# EAGLE library part AR0231AT7C00XUEA0-DRBR-E (library AR0231AT7C00XUEA0-DRBR-E)
Image Sensor Color CMOS 1928 x 1208Pixels Source: Datasheet <https://4donline.ihs.com/images/VipMasterIC/IC/ONSM/ONSM-S-A0003590094/ONSM-S-A0003590376-1.pdf?hkey=52A5661711E402568146F3353EA87419>
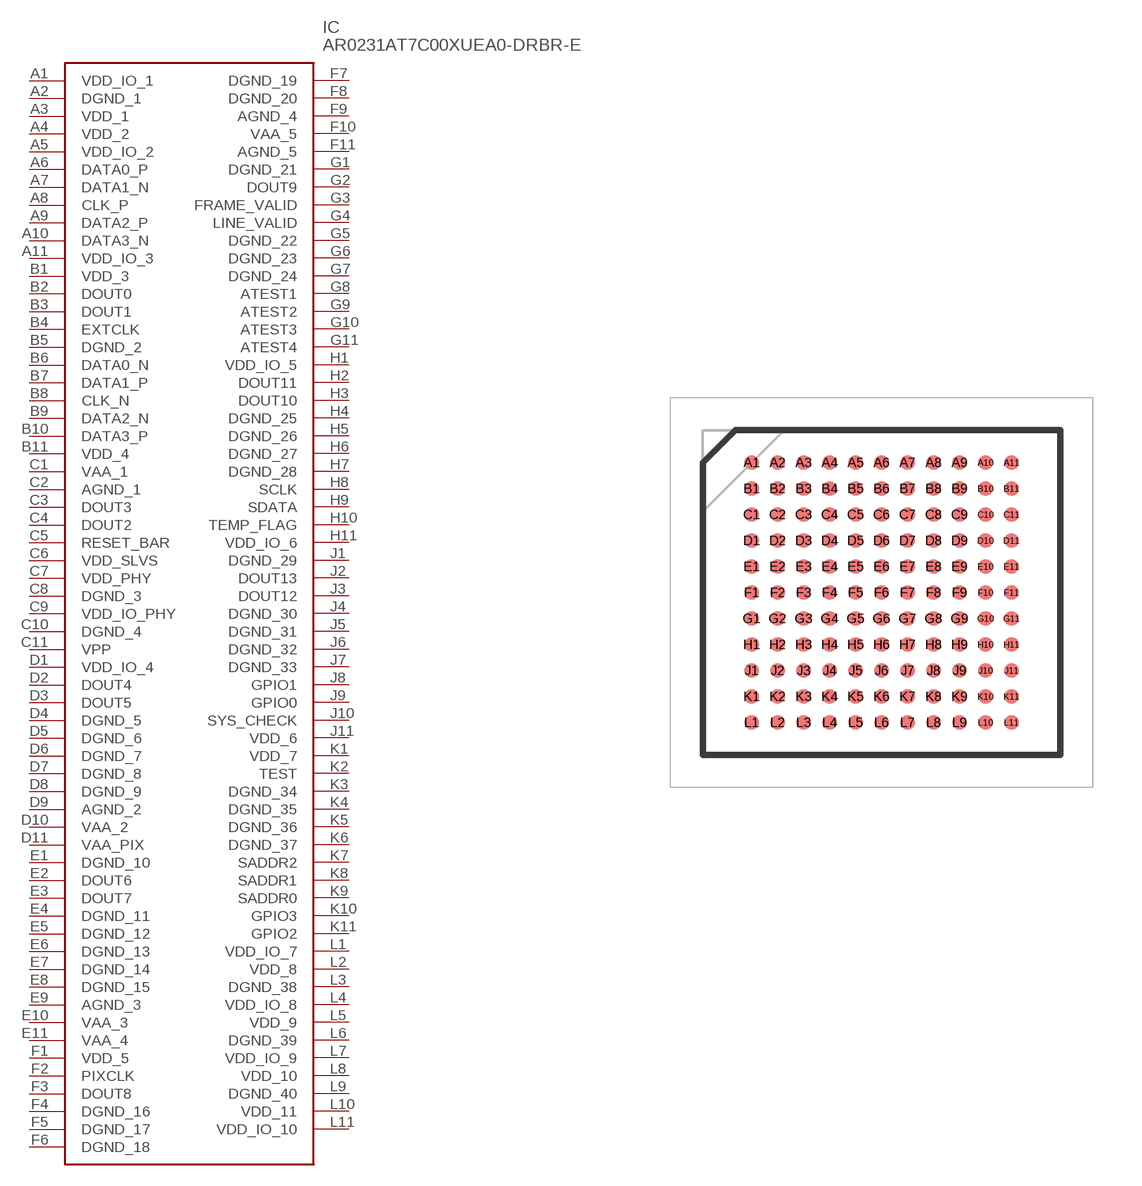
[diagram p0: symbol with the pads of BGA121C80P11X11_1100X1000X155; footprint BGA121C80P11X11_1100X1000X155]

Designator prefix IC

## AR0231AT7C00XUEA0-DRBR-E (Description: Image Sensor Color CMOS 1928 x 1208Pixels; Height: 1.55mm; Manufacturer_Name: onsemi; Manufacturer_Part_Number: AR0231AT7C00XUEA0-DRBR-E)  [BGA121C80P11X11_1100X1000X155]
A1  VDD_IO_1
A2  DGND_1
A3  VDD_1
A4  VDD_2
A5  VDD_IO_2
A6  DATA0_P
A7  DATA1_N
A8  CLK_P
A9  DATA2_P
A10  DATA3_N
A11  VDD_IO_3
B1  VDD_3
B2  DOUT0
B3  DOUT1
B4  EXTCLK
B5  DGND_2
B6  DATA0_N
B7  DATA1_P
B8  CLK_N
B9  DATA2_N
B10  DATA3_P
B11  VDD_4
C1  VAA_1
C2  AGND_1
C3  DOUT3
C4  DOUT2
C5  RESET_BAR
C6  VDD_SLVS
C7  VDD_PHY
C8  DGND_3
C9  VDD_IO_PHY
C10  DGND_4
C11  VPP
D1  VDD_IO_4
D2  DOUT4
D3  DOUT5
D4  DGND_5
D5  DGND_6
D6  DGND_7
D7  DGND_8
D8  DGND_9
D9  AGND_2
D10  VAA_2
D11  VAA_PIX
E1  DGND_10
E2  DOUT6
E3  DOUT7
E4  DGND_11
E5  DGND_12
E6  DGND_13
E7  DGND_14
E8  DGND_15
E9  AGND_3
E10  VAA_3
E11  VAA_4
F1  VDD_5
F2  PIXCLK
F3  DOUT8
F4  DGND_16
F5  DGND_17
F6  DGND_18
F7  DGND_19
F8  DGND_20
F9  AGND_4
F10  VAA_5
F11  AGND_5
G1  DGND_21
G2  DOUT9
G3  FRAME_VALID
G4  LINE_VALID
G5  DGND_22
G6  DGND_23
G7  DGND_24
G8  ATEST1
G9  ATEST2
G10  ATEST3
G11  ATEST4
H1  VDD_IO_5
H2  DOUT11
H3  DOUT10
H4  DGND_25
H5  DGND_26
H6  DGND_27
H7  DGND_28
H8  SCLK
H9  SDATA
H10  TEMP_FLAG
H11  VDD_IO_6
J1  DGND_29
J2  DOUT13
J3  DOUT12
J4  DGND_30
J5  DGND_31
J6  DGND_32
J7  DGND_33
J8  GPIO1
J9  GPIO0
J10  SYS_CHECK
J11  VDD_6
K1  VDD_7
K2  TEST
K3  DGND_34
K4  DGND_35
K5  DGND_36
K6  DGND_37
K7  SADDR2
K8  SADDR1
K9  SADDR0
K10  GPIO3
K11  GPIO2
L1  VDD_IO_7
L2  VDD_8
L3  DGND_38
L4  VDD_IO_8
L5  VDD_9
L6  DGND_39
L7  VDD_IO_9
L8  VDD_10
L9  DGND_40
L10  VDD_11
L11  VDD_IO_10

## Footprint BGA121C80P11X11_1100X1000X155 (pad centres in mm)
IBGA121 10x11 CASE 503BG ISSUE O
smd 0.45 x 0.45: A1 -4,4; A2 -3.2,4; A3 -2.4,4; A4 -1.6,4; A5 -0.8,4; A6 0,4; A7 0.8,4; A8 1.6,4; A9 2.4,4; A10 3.2,4; A11 4,4; B1 -4,3.2; B2 -3.2,3.2; B3 -2.4,3.2; B4 -1.6,3.2; B5 -0.8,3.2; B6 0,3.2; B7 0.8,3.2; B8 1.6,3.2; B9 2.4,3.2; B10 3.2,3.2; B11 4,3.2; C1 -4,2.4; C2 -3.2,2.4; C3 -2.4,2.4; C4 -1.6,2.4; C5 -0.8,2.4; C6 0,2.4; C7 0.8,2.4; C8 1.6,2.4; C9 2.4,2.4; C10 3.2,2.4; C11 4,2.4; D1 -4,1.6; D2 -3.2,1.6; D3 -2.4,1.6; D4 -1.6,1.6; D5 -0.8,1.6; D6 0,1.6; D7 0.8,1.6; D8 1.6,1.6; D9 2.4,1.6; D10 3.2,1.6; D11 4,1.6; E1 -4,0.8; E2 -3.2,0.8; E3 -2.4,0.8; E4 -1.6,0.8; E5 -0.8,0.8; E6 0,0.8; E7 0.8,0.8; E8 1.6,0.8; E9 2.4,0.8; E10 3.2,0.8; E11 4,0.8; F1 -4,0; F2 -3.2,0; F3 -2.4,0; F4 -1.6,0; F5 -0.8,0; F6 0,0; F7 0.8,0; F8 1.6,0; F9 2.4,0; F10 3.2,0; F11 4,0; G1 -4,-0.8; G2 -3.2,-0.8; G3 -2.4,-0.8; G4 -1.6,-0.8; G5 -0.8,-0.8; G6 0,-0.8; G7 0.8,-0.8; G8 1.6,-0.8; G9 2.4,-0.8; G10 3.2,-0.8; G11 4,-0.8; H1 -4,-1.6; H2 -3.2,-1.6; H3 -2.4,-1.6; H4 -1.6,-1.6; H5 -0.8,-1.6; H6 0,-1.6; H7 0.8,-1.6; H8 1.6,-1.6; H9 2.4,-1.6; H10 3.2,-1.6; H11 4,-1.6; J1 -4,-2.4; J2 -3.2,-2.4; J3 -2.4,-2.4; J4 -1.6,-2.4; J5 -0.8,-2.4; J6 0,-2.4; J7 0.8,-2.4; J8 1.6,-2.4; J9 2.4,-2.4; J10 3.2,-2.4; J11 4,-2.4; K1 -4,-3.2; K2 -3.2,-3.2; K3 -2.4,-3.2; K4 -1.6,-3.2; K5 -0.8,-3.2; K6 0,-3.2; K7 0.8,-3.2; K8 1.6,-3.2; K9 2.4,-3.2; K10 3.2,-3.2; K11 4,-3.2; L1 -4,-4; L2 -3.2,-4; L3 -2.4,-4; L4 -1.6,-4; L5 -0.8,-4; L6 0,-4; L7 0.8,-4; L8 1.6,-4; L9 2.4,-4; L10 3.2,-4; L11 4,-4